# EAGLE library part FEMALE_1X6 (library be_con_jump)
drawn: Mario Blunk / Blunk electronic
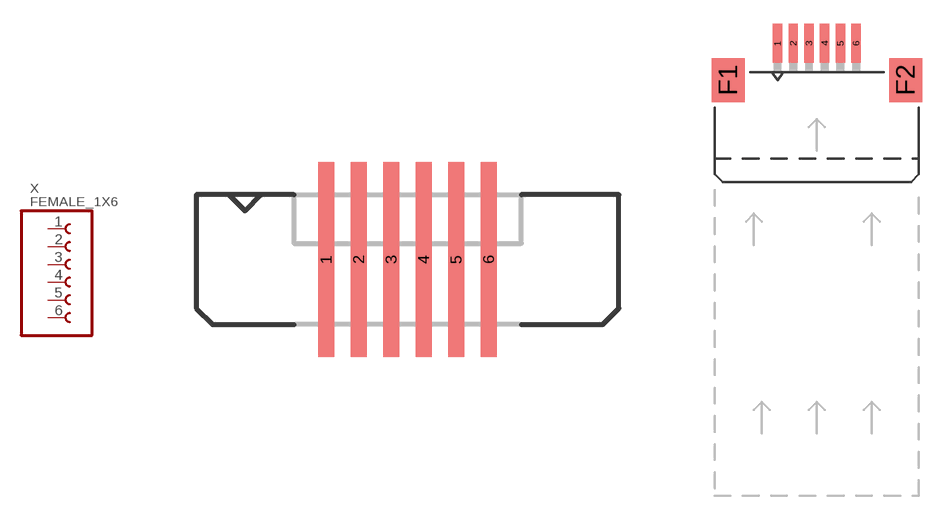
[diagram p16: symbol with the pads of S_FEMALE_1X6_VERTICAL; footprints S_FEMALE_1X6_VERTICAL, S_FEMALE_1X6_HORIZONTAL]

Designator prefix X

## FEMALE_1X6-S-VERTICAL (BOM: YES; COMMISSIONED: 2014-03-19; PART_CODE_BEL: X_PAC_S_FEMALE_1x6_VERTICAL)  [S_FEMALE_1X6_VERTICAL]
1  1  pas
2  2  pas
3  3  pas
4  4  pas
5  5  pas
6  6  pas

## FEMALE_1X6-S-HORIZONTAL (BOM: YES; COMMISSIONED: 2014-04-08; PART_CODE_BEL: X_PAC_S_FEMALE_1x6_HORIZONTAL)  [S_FEMALE_1X6_HORIZONTAL]
Pads as for S_FEMALE_1X6_VERTICAL

## Footprint S_FEMALE_1X6_VERTICAL (pad centres in mm)
drawn: Mario Blunk / Blunk electronic date: 2014-02-25
smd 0.5 x 6: 1 -2.5,0; 2 -1.5,0; 3 -0.5,0; 4 0.5,0; 5 1.5,0; 6 2.5,0

## Footprint S_FEMALE_1X6_HORIZONTAL (pad centres in mm)
drawn: Mario Blunk / Blunk electronic date: 2014-04-07
smd 0.6 x 2.5: 1 -2.5,5.35; 2 -1.5,5.35; 3 -0.5,5.35; 4 0.5,5.35; 5 1.5,5.35; 6 2.5,5.35
smd 2.1 x 2.8: F1 -5.65,3; F2 5.65,3